# Altium schematic symbol library lambda.SchLib: 2 symbols
Pins are listed as number, name and electrical type; pins without a type are passive.

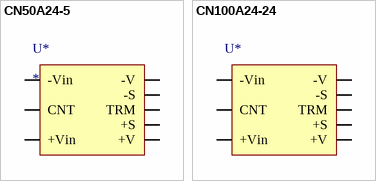
[diagram p0: symbols CN50A24-5 to CN100A24-24]

## CN50A24-5
designator U*
Lambda 5V Supply
footprint CN[50,100]A24
pins: 1 -Vin, 2 CNT, 3 +Vin, 4 -V, 5 -S, 6 TRM, 7 +S, 8 +V

## CN100A24-24
designator U*  (value not drawn)
Lambda 24 V Supply
footprint CN[50,100]A24
pins: 1 -Vin, 2 CNT, 3 +Vin, 4 -V, 5 -S, 6 TRM, 7 +S, 8 +V